# Altium schematic symbol library cubesat_bus.SchLib: 4 symbols
Pins are listed as number, name and electrical type; pins without a type are passive.

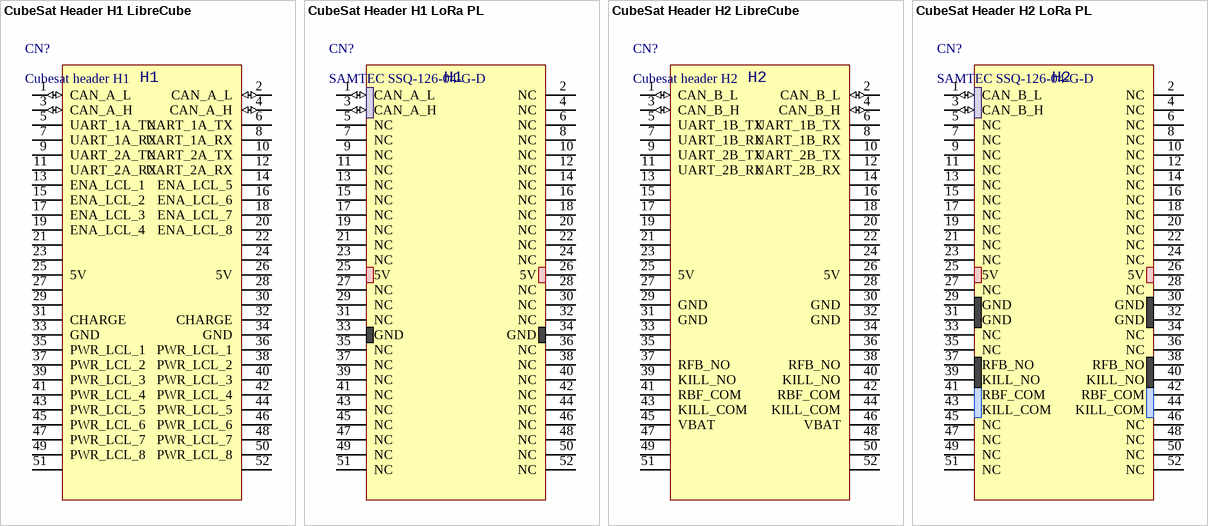
[diagram p0: symbols CubeSat Header H1 LibreCube to CubeSat Header H2 LoRa PL]

## CubeSat Header H1 LibreCube
designator CN?, comment Cubesat header H1
LibreCube standard
footprint SAMTEC SSQ-126-04-G-D (THROUGH-HOLE .025" SQ POST SOCKET (2.54 mm) .100" PITCH, SSW/SSQ SERIES)
footprint SAMTEC SSQ NO 3D (THROUGH-HOLE .025" SQ POST SOCKET (2.54 mm) .100" PITCH, SSW/SSQ SERIES)
pins: 1 CAN_A_L (io), 2 CAN_A_L (io), 3 CAN_A_H (io), 4 CAN_A_H (io), 5 UART_1A_TX, 6 UART_1A_TX, 7 UART_1A_RX, 8 UART_1A_RX, 9 UART_2A_TX, 10 UART_2A_TX, 11 UART_2A_RX, 12 UART_2A_RX, 13 ENA_LCL_1, 14 ENA_LCL_5, 15 ENA_LCL_2, 16 ENA_LCL_6, 17 ENA_LCL_3, 18 ENA_LCL_7, 19 ENA_LCL_4, 20 ENA_LCL_8, 21, 22, 23, 24, 25 5V (power), 26 5V (power), 27, 28, 29, 30, 31 CHARGE, 32 CHARGE, 33 GND (power), 34 GND (power), 35 PWR_LCL_1, 36 PWR_LCL_1, 37 PWR_LCL_2, 38 PWR_LCL_2, 39 PWR_LCL_3, 40 PWR_LCL_3, 41 PWR_LCL_4, 42 PWR_LCL_4, 43 PWR_LCL_5, 44 PWR_LCL_5, 45 PWR_LCL_6, 46 PWR_LCL_6, 47 PWR_LCL_7, 48 PWR_LCL_7, 49 PWR_LCL_8, 50 PWR_LCL_8, 51, 52
text: H1

## CubeSat Header H1 LoRa PL
designator CN?, comment SAMTEC SSQ-126-04-G-D
LoRa Payload only pins SAMTEC SSQ-126-04-G-D; System: Connector
footprint SAMTEC SSQ-126-04-G-D (THROUGH-HOLE .025" SQ POST SOCKET (2.54 mm) .100" PITCH, SSW/SSQ SERIES)
footprint SAMTEC SSQ NO 3D (THROUGH-HOLE .025" SQ POST SOCKET (2.54 mm) .100" PITCH, SSW/SSQ SERIES)
pins: 1 CAN_A_L (io), 2 NC, 3 CAN_A_H (io), 4 NC, 5 NC, 6 NC, 7 NC, 8 NC, 9 NC, 10 NC, 11 NC, 12 NC, 13 NC, 14 NC, 15 NC, 16 NC, 17 NC, 18 NC, 19 NC, 20 NC, 21 NC, 22 NC, 23 NC, 24 NC, 25 5V (power), 26 5V (power), 27 NC, 28 NC, 29 NC, 30 NC, 31 NC, 32 NC, 33 GND (power), 34 GND (power), 35 NC, 36 NC, 37 NC, 38 NC, 39 NC, 40 NC, 41 NC, 42 NC, 43 NC, 44 NC, 45 NC, 46 NC, 47 NC, 48 NC, 49 NC, 50 NC, 51 NC, 52 NC
text: H1

## CubeSat Header H2 LibreCube
designator CN?, comment Cubesat header H2
LibreCube standard
footprint SAMTEC SSQ NO 3D (THROUGH-HOLE .025" SQ POST SOCKET (2.54 mm) .100" PITCH, SSW/SSQ SERIES)
pins: 1 CAN_B_L (io), 2 CAN_B_L (io), 3 CAN_B_H (io), 4 CAN_B_H (io), 5 UART_1B_TX, 6 UART_1B_TX, 7 UART_1B_RX, 8 UART_1B_RX, 9 UART_2B_TX, 10 UART_2B_TX, 11 UART_2B_RX, 12 UART_2B_RX, 13, 14, 15, 16, 17, 18, 19, 20, 21, 22, 23, 24, 25 5V (power), 26 5V (power), 27, 28, 29 GND (power), 30 GND (power), 31 GND (power), 32 GND (power), 33, 34, 35, 36, 37 RFB_NO, 38 RFB_NO, 39 KILL_NO, 40 KILL_NO, 41 RBF_COM, 42 RBF_COM, 43 KILL_COM, 44 KILL_COM, 45 VBAT (power), 46 VBAT (power), 47, 48, 49, 50, 51, 52
text: H2

## CubeSat Header H2 LoRa PL
designator CN?, comment SAMTEC SSQ-126-04-G-D
LoRa Payload only pins; System: Connector
footprint SAMTEC SSQ-126-04-G-D (THROUGH-HOLE .025" SQ POST SOCKET (2.54 mm) .100" PITCH, SSW/SSQ SERIES)
footprint SAMTEC SSQ NO 3D (THROUGH-HOLE .025" SQ POST SOCKET (2.54 mm) .100" PITCH, SSW/SSQ SERIES)
pins: 1 CAN_B_L (io), 2 NC, 3 CAN_B_H (io), 4 NC, 5 NC, 6 NC, 7 NC, 8 NC, 9 NC, 10 NC, 11 NC, 12 NC, 13 NC, 14 NC, 15 NC, 16 NC, 17 NC, 18 NC, 19 NC, 20 NC, 21 NC, 22 NC, 23 NC, 24 NC, 25 5V (power), 26 5V (power), 27 NC, 28 NC, 29 GND (power), 30 GND (power), 31 GND (power), 32 GND (power), 33 NC, 34 NC, 35 NC, 36 NC, 37 RFB_NO, 38 RFB_NO, 39 KILL_NO, 40 KILL_NO, 41 RBF_COM, 42 RBF_COM, 43 KILL_COM, 44 KILL_COM, 45 NC (power), 46 NC (power), 47 NC, 48 NC, 49 NC, 50 NC, 51 NC, 52 NC
text: H2